# Altium schematic symbol library 电源.SchLib: 1 symbol
Pins are listed as number, name and electrical type; pins without a type are passive.

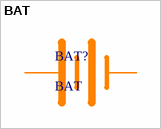
[diagram p0: symbol BAT]

## BAT
designator BAT?
pins: 1, 2 50